# EAGLE library part USB2066-05-RBHM-XX-STB-00-00-A_REVD (library USB2066-05-RBHM-XX-STB-00-00-A_REVD)
Mimi USB Receptacle, Type B, 5 Pin, SMT, Horizontal, Optional Post, 9.40mm Length
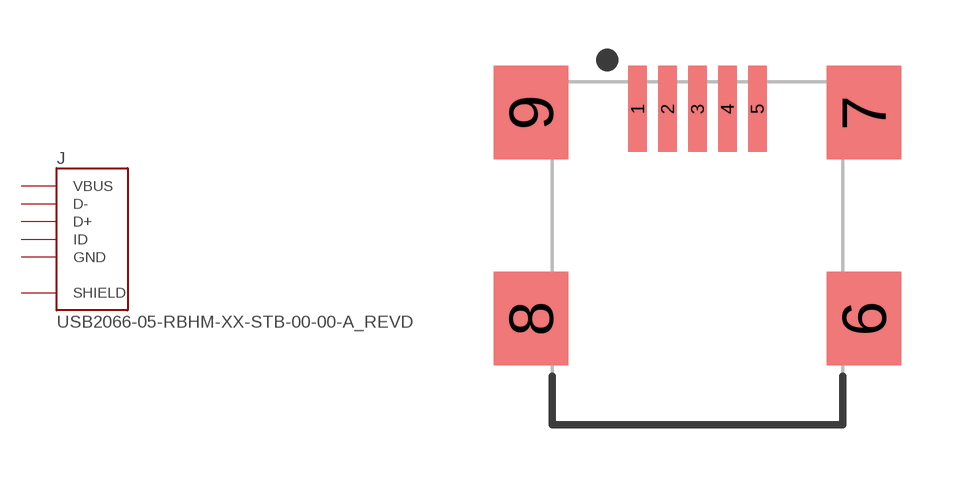
[diagram p0: symbol with the pads of GCT_USB2066-05-RBHM-XX-STB-00-00-A_REVD; footprint GCT_USB2066-05-RBHM-XX-STB-00-00-A_REVD]

Designator prefix J

## USB2066-05-RBHM-XX-STB-00-00-A_REVD (Description: USB - mini B USB 2.0 Receptacle Connector 5 Position Surface Mount, Right Angle; Digi-Key_Part_Number: 2073-USB2066-05-RBHM-15-STB-00-00-ACT-ND; MF: Global Connector Technology; MP: USB2066-05-RBHM-15-STB-00-00-A; Package: None; Purchase-URL: https://pricing.snapeda.com/search/part/USB2066-05-RBHM-15-STB-00-00-A/?ref=eda)  [GCT_USB2066-05-RBHM-XX-STB-00-00-A_REVD]
1  VBUS  pwr
2  D-
3  D+
4  ID
5  GND  pwr
6  SHIELD  pwr
7  SHIELD  pwr
8  SHIELD  pwr
9  SHIELD  pwr

## Footprint GCT_USB2066-05-RBHM-XX-STB-00-00-A_REVD (pad centres in mm)
smd 0.5 x 2.3: 1 -1.6,2.6; 2 -0.8,2.6; 3 0,2.6; 4 0.8,2.6; 5 1.6,2.6
smd 2 x 2.5: 6 4.45,-3; 7 4.45,2.5; 8 -4.45,-3; 9 -4.45,2.5